# Altium schematic symbol library Huan.SchLib: 127 symbols
Pins are listed as number, name and electrical type; pins without a type are passive.

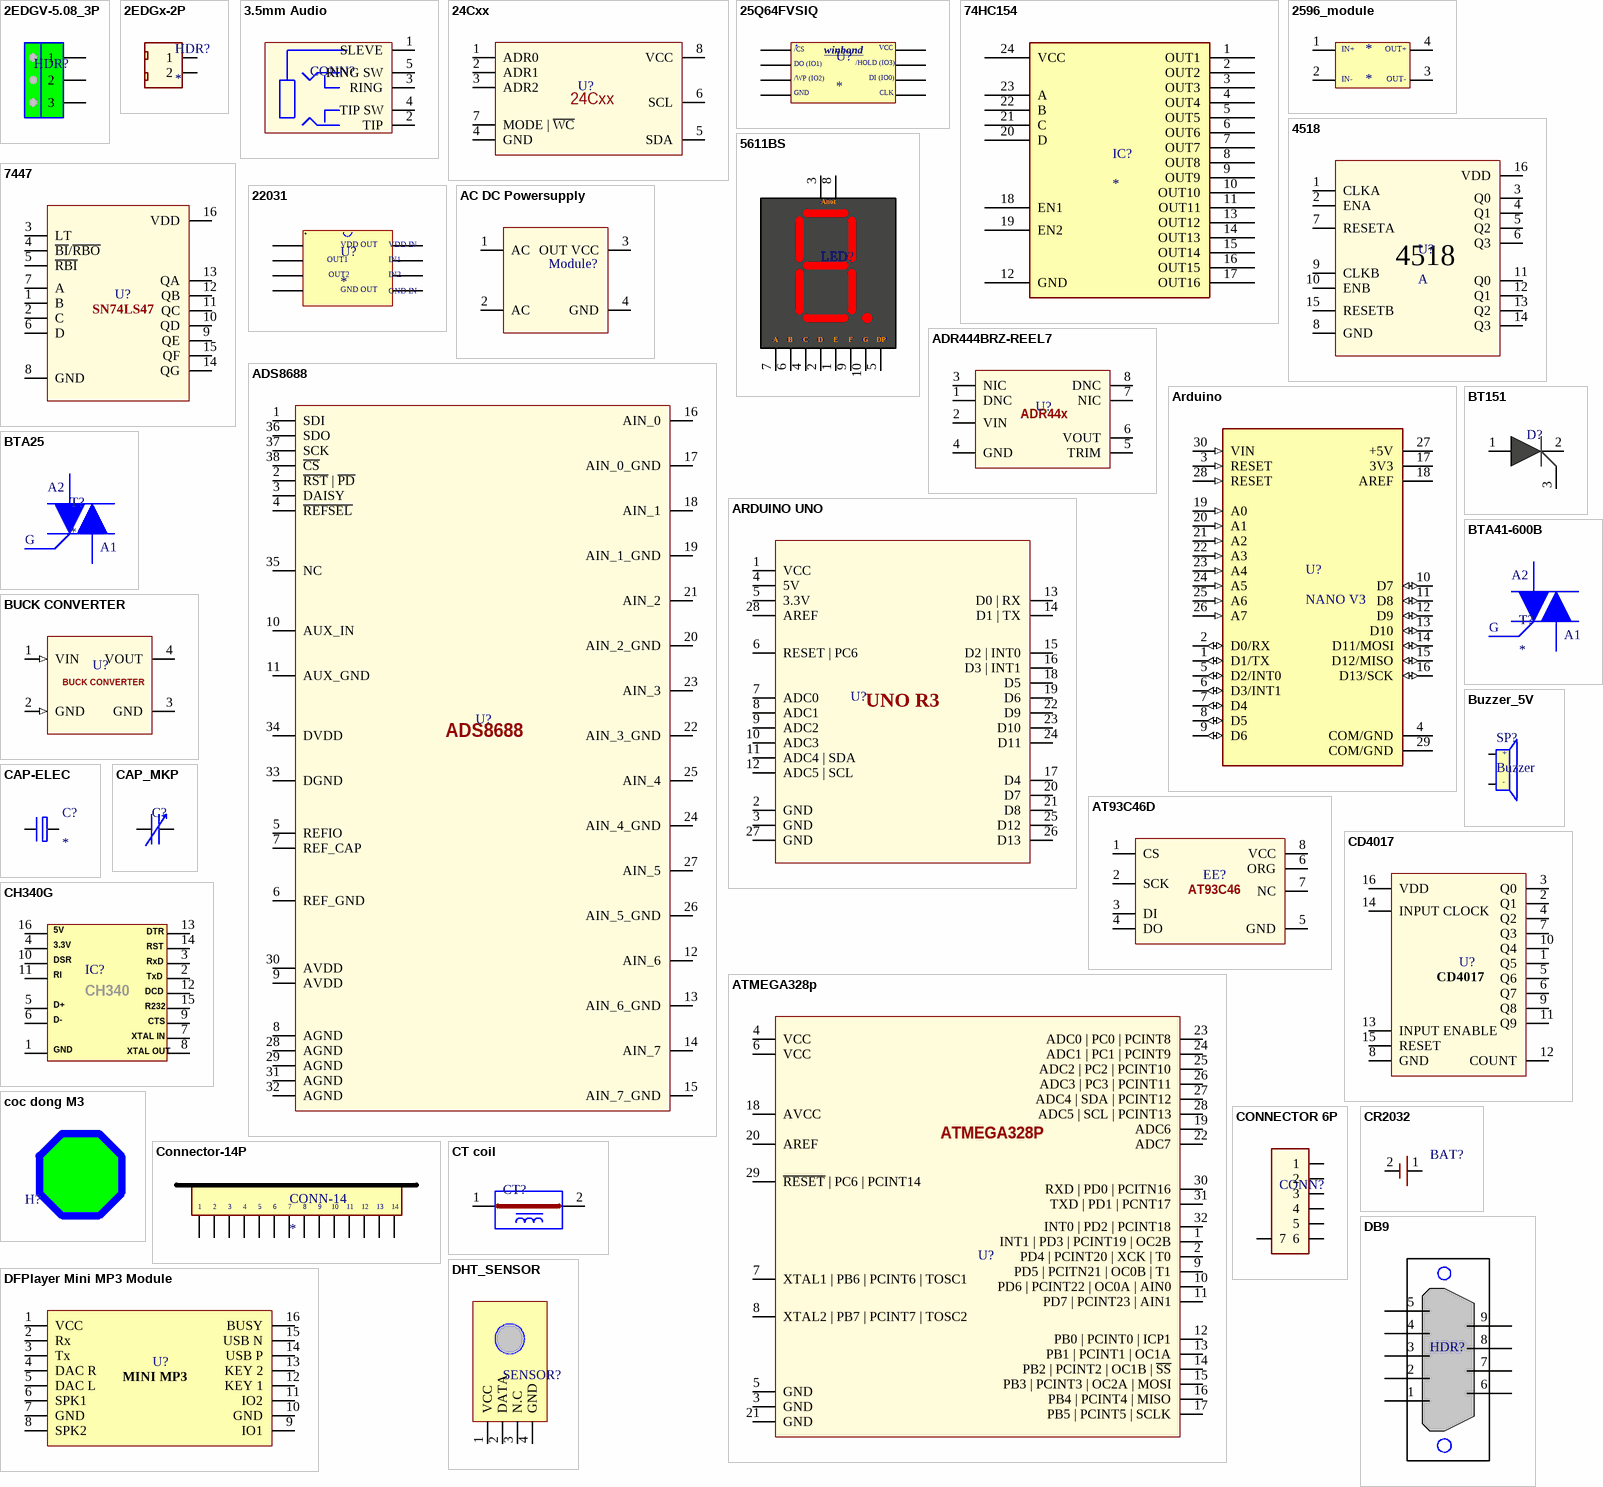
[diagram p0: symbols 2EDGV-5.08_3P to DHT_SENSOR]

## 2EDGV-5.08_3P
designator HDR?  (value not drawn)
footprint 2EDGV_5.08_3P
pins: 1, 2, 3

## 2EDGx-2P
designator HDR?
footprint 2EGDV-5.08_2P
footprint 2EDGK-7.62_2P
footprint 2EDGR-5.00
footprint KF5.08-2P
pins: 1, 2

## 3.5mm Audio
designator CONN?  (value not drawn)
footprint PJ-307-5
pins: 1 SLEVE, 2 TIP, 3 RING, 4 TIP SW, 5 RING SW

## 24Cxx
designator U?  (value not drawn)
SERIAL EEPROM
footprint SOP-8
pins: 1 ADR0, 2 ADR1, 3 ADR2, 4 GND, 5 SDA, 6 SCL, 7 MODE | ~{WC}, 8 VCC

## 25Q64FVSIQ
designator U?
pins: 1, 2, 3, 4, 5, 6, 7, 8
text: VCC; /CS; winbond; /HOLD (IO3); DO (IO1); /WP (IO2); DI (IO0); GND; CLK

## 74HC154
designator IC?
footprint SOP24
pins: 1 OUT1, 2 OUT2, 3 OUT3, 4 OUT4, 5 OUT5, 6 OUT6, 7 OUT7, 8 OUT8, 9 OUT9, 10 OUT10, 11 OUT11, 12 GND, 13 OUT12, 14 OUT13, 15 OUT14, 16 OUT15, 17 OUT16, 18 EN1, 19 EN2, 20 D, 21 C, 22 B, 23 A, 24 VCC

## 2596_module
designator *
footprint 2596_MODULE
pins: 1, 2, 3, 4
text: IN+; OUT+; IN-; OUT-

## 4518
designator U?, comment A
footprint DIP-16
pins: 1 CLKA, 2 ENA, 3 Q0, 4 Q1, 5 Q2, 6 Q3, 7 RESETA, 8 GND, 9 CLKB, 10 ENB, 11 Q0, 12 Q1, 13 Q2, 14 Q3, 15 RESETB, 16 VDD

## 5611BS
designator LED?  (value not drawn)
footprint 7SEG-0.56"
pins: 1, 2, 3, 4, 5, 6, 7, 8, 9, 10
text: Anot; A; B; C; D; E; F; G; DP

## 7447
designator U?  (value not drawn)
footprint DIP-16
pins: 1 B, 2 C, 3 LT, 4 ~{BI}/~{RBO}, 5 ~{RBI}, 6 D, 7 A, 8 GND, 9 QE, 10 QD, 11 QC, 12 QB, 13 QA, 14 QG, 15 QF, 16 VDD
text: SN74LS47

## 22031
designator U?
pins: 1, 2, 3, 4, 5, 6, 7, 8
text: VDD OUT; VDD IN; OUT1; IN1; OUT2; IN2; GND OUT; GND IN

## AC DC Powersupply
designator Module?  (value not drawn)
footprint AC DC 220 5V 700mA
footprint VNPT_ADAPTER
pins: 1 AC, 2 AC, 3 OUT VCC, 4 GND

## ADR444BRZ-REEL7
designator U?  (value not drawn)
Ultralow Noise, LDO XFET Voltage / References with Current Sink and Source / ADR440/ADR441/ADR443/ADR444/ADR445
footprint SOP-8
pins: 1 DNC, 2 VIN, 3 NIC, 4 GND, 5 TRIM, 6 VOUT, 7 NIC, 8 DNC
text: ADR44x

## ADS8688
designator U?  (value not drawn)
ADS868x16-Bit,500-kSPS,4-and8-Channel,Single-Supply
footprint TSSOP-38
pins: 1 SDI, 2 ~{RST} | ~{PD}, 3 DAISY, 4 ~{REFSEL}, 5 REFIO, 6 REF_GND, 7 REF_CAP, 8 AGND, 9 AVDD, 10 AUX_IN, 11 AUX_GND, 12 AIN_6, 13 AIN_6_GND, 14 AIN_7, 15 AIN_7_GND, 16 AIN_0, 17 AIN_0_GND, 18 AIN_1, 19 AIN_1_GND, 20 AIN_2_GND, 21 AIN_2, 22 AIN_3_GND, 23 AIN_3, 24 AIN_4_GND, 25 AIN_4, 26 AIN_5_GND, 27 AIN_5, 28 AGND, 29 AGND, 30 AVDD, 31 AGND, 32 AGND, 33 DGND, 34 DVDD, 35 NC, 36 SDO, 37 SCK, 38 ~{CS}

## Arduino
designator U?, comment NANO V3
footprint Nano V3
pins: 1 D1/TX (io), 2 D0/RX (io), 3 RESET (in), 4 COM/GND (power), 5 D2/INT0 (io), 6 D3/INT1 (io), 7 D4 (io), 8 D5 (io), 9 D6 (io), 10 D7 (io), 11 D8 (io), 12 D9 (io), 13 D10 (io), 14 D11/MOSI (io), 15 D12/MISO (io), 16 D13/SCK (io), 17 3V3 (power), 18 AREF (power), 19 A0 (in), 20 A1 (in), 21 A2 (in), 22 A3 (in), 23 A4 (in), 24 A5 (in), 25 A6 (in), 26 A7 (in), 27 +5V (power), 28 RESET (in), 29 COM/GND (power), 30 VIN (in)

## ARDUINO UNO
designator U?  (value not drawn)
footprint ARDUINO UNO
pins: 1 VCC, 2 GND, 3 GND, 4 5V, 5 3.3V, 6 RESET | PC6, 7 ADC0, 8 ADC1, 9 ADC2, 10 ADC3, 11 ADC4 | SDA, 12 ADC5 | SCL, 13 D0 | RX, 14 D1 | TX, 15 D2 | INT0, 16 D3 | INT1, 17 D4, 18 D5, 19 D6, 20 D7, 21 D8, 22 D9, 23 D10, 24 D11, 25 D12, 26 D13, 27 GND, 28 AREF
text: UNO R3

## AT93C46D
designator EE?  (value not drawn)
3-wire Serial EEPROM
footprint SOP-8_mini
pins: 1 CS, 2 SCK, 3 DI, 4 DO, 5 GND, 6 ORG, 7 NC, 8 VCC
text: AT93C46

## ATMEGA328p
designator U?  (value not drawn)
footprint TQFP-32
pins: 1 INT1 | PD3 | PCINT19 | OC2B (power), 2 PD4 | PCINT20 | XCK | T0, 3 GND, 4 VCC, 5 GND, 6 VCC, 7 XTAL1 | PB6 | PCINT6 | TOSC1, 8 XTAL2 | PB7 | PCINT7 | TOSC2 , 9 PD5 | PCITN21 | OC0B | T1 (power), 10 PD6 | PCINT22 | OC0A | AIN0 (power), 11 PD7 | PCINT23 | AIN1, 12 PB0 | PCINT0 | ICP1, 13 PB1 | PCINT1 | OC1A (power), 14 PB2 | PCINT2 | OC1B | ~{SS} (power), 15 PB3 | PCINT3 | OC2A | MOSI (power), 16 PB4 | PCINT4 | MISO, 17 PB5 | PCINT5 | SCLK, 18 AVCC, 19 ADC6, 20 AREF, 21 GND, 22 ADC7, 23 ADC0 | PC0 | PCINT8, 24 ADC1 | PC1 | PCINT9, 25 ADC2 | PC2 | PCINT10, 26 ADC3 | PC3 | PCINT11, 27 ADC4 | SDA | PCINT12, 28 ADC5 | SCL | PCINT13, 29 ~{RESET} | PC6 | PCINT14, 30 RXD | PD0 | PCITN16, 31 TXD | PD1 | PCNT17, 32 INT0 | PD2 | PCINT18
text: ATMEGA328P

## BT151
designator D?, comment SCR  (value not drawn)
footprint TO-220
pins: 1 A, 2 K, 3 G

## BTA25
designator T?
footprint TO-220_TRIAC
pins: 1, 2, 3
text: A2; G; A1

## BTA41-600B
designator T?
footprint BTA41
pins: 1, 2, 3
text: A2; G; A1

## BUCK CONVERTER
designator U?, comment LM2596  (value not drawn)
footprint LM2596_Module
footprint MINI-360
pins: 1 VIN (in), 2 GND (in), 3 GND (power), 4 VOUT (power)
text: Vin; Vout

## Buzzer_5V
designator SP?, comment Buzzer
footprint Buzzer
pins: 1, 2
text: +; -

## CAP-ELEC
designator C?
footprint CAP-5MM
footprint CAP-2.54MM
footprint CAP-8MM
footprint CAP-8MM_HORIZONTAL
pins: 1, 2

## CAP_MKP
designator C?, comment 474/1200V  (value not drawn)
footprint MKP-1200V
footprint MKP-680nf
footprint X2 0.22uF
footprint X2 0.1uF
pins: 1, 2

## CD4017
designator U?  (value not drawn)
footprint DIP-16
pins: 1 Q5, 2 Q1, 3 Q0, 4 Q2, 5 Q6, 6 Q7, 7 Q3, 8 GND, 9 Q8, 10 Q4, 11 Q9, 12 COUNT, 13 INPUT ENABLE, 14 INPUT CLOCK, 15 RESET, 16 VDD

## CH340G
designator IC?  (value not drawn)
footprint SOIC-16
pins: 1, 2, 3, 4, 5, 6, 7, 8, 9, 10, 11, 12, 13, 14, 15, 16
text: 5V; DTR; 3.3V; RST; DSR; RxD; RI; TxD; CH340; DCD; D+; R232; D-; CTS; XTAL IN; GND; XTAL OUT

## coc dong M3
designator H?
footprint M3

## CONNECTOR 6P
designator CONN?  (value not drawn)
footprint PH 2.0MM
footprint JST-PH2.0_6P
pins: 1, 2, 3, 4, 5, 6, 7

## Connector-14P
designator CONN-14
pins: 1, 2, 3, 4, 5, 6, 7, 8, 9, 10, 11, 12, 13, 14

## CR2032
designator BAT?  (value not drawn)
footprint CR2032_h
footprint CR2032_SMD
pins: 1 vcc, 2 GND

## CT coil
designator CT?  (value not drawn)
footprint CT COIL for PZEM
pins: 1 CT1, 2 CT2

## DB9
designator HDR?  (value not drawn)
footprint DB9
pins: 1 8, 2 7, 3, 4 5, 5 4, 6, 7 4, 8, 9

## DFPlayer Mini MP3 Module
designator U?  (value not drawn)
footprint MP3-MINI
pins: 1 VCC, 2 Rx, 3 Tx, 4 DAC R, 5 DAC L, 6 SPK1, 7 GND, 8 SPK2, 9 IO1, 10 GND, 11 IO2, 12 KEY 1, 13 KEY 2, 14 USB P, 15 USB N, 16 BUSY
text: MINI MP3

## DHT_SENSOR
designator SENSOR?
Temperature and Humidity Sensor
footprint DHT
pins: 1 VCC, 2 DATA, 3 N.C, 4 GND

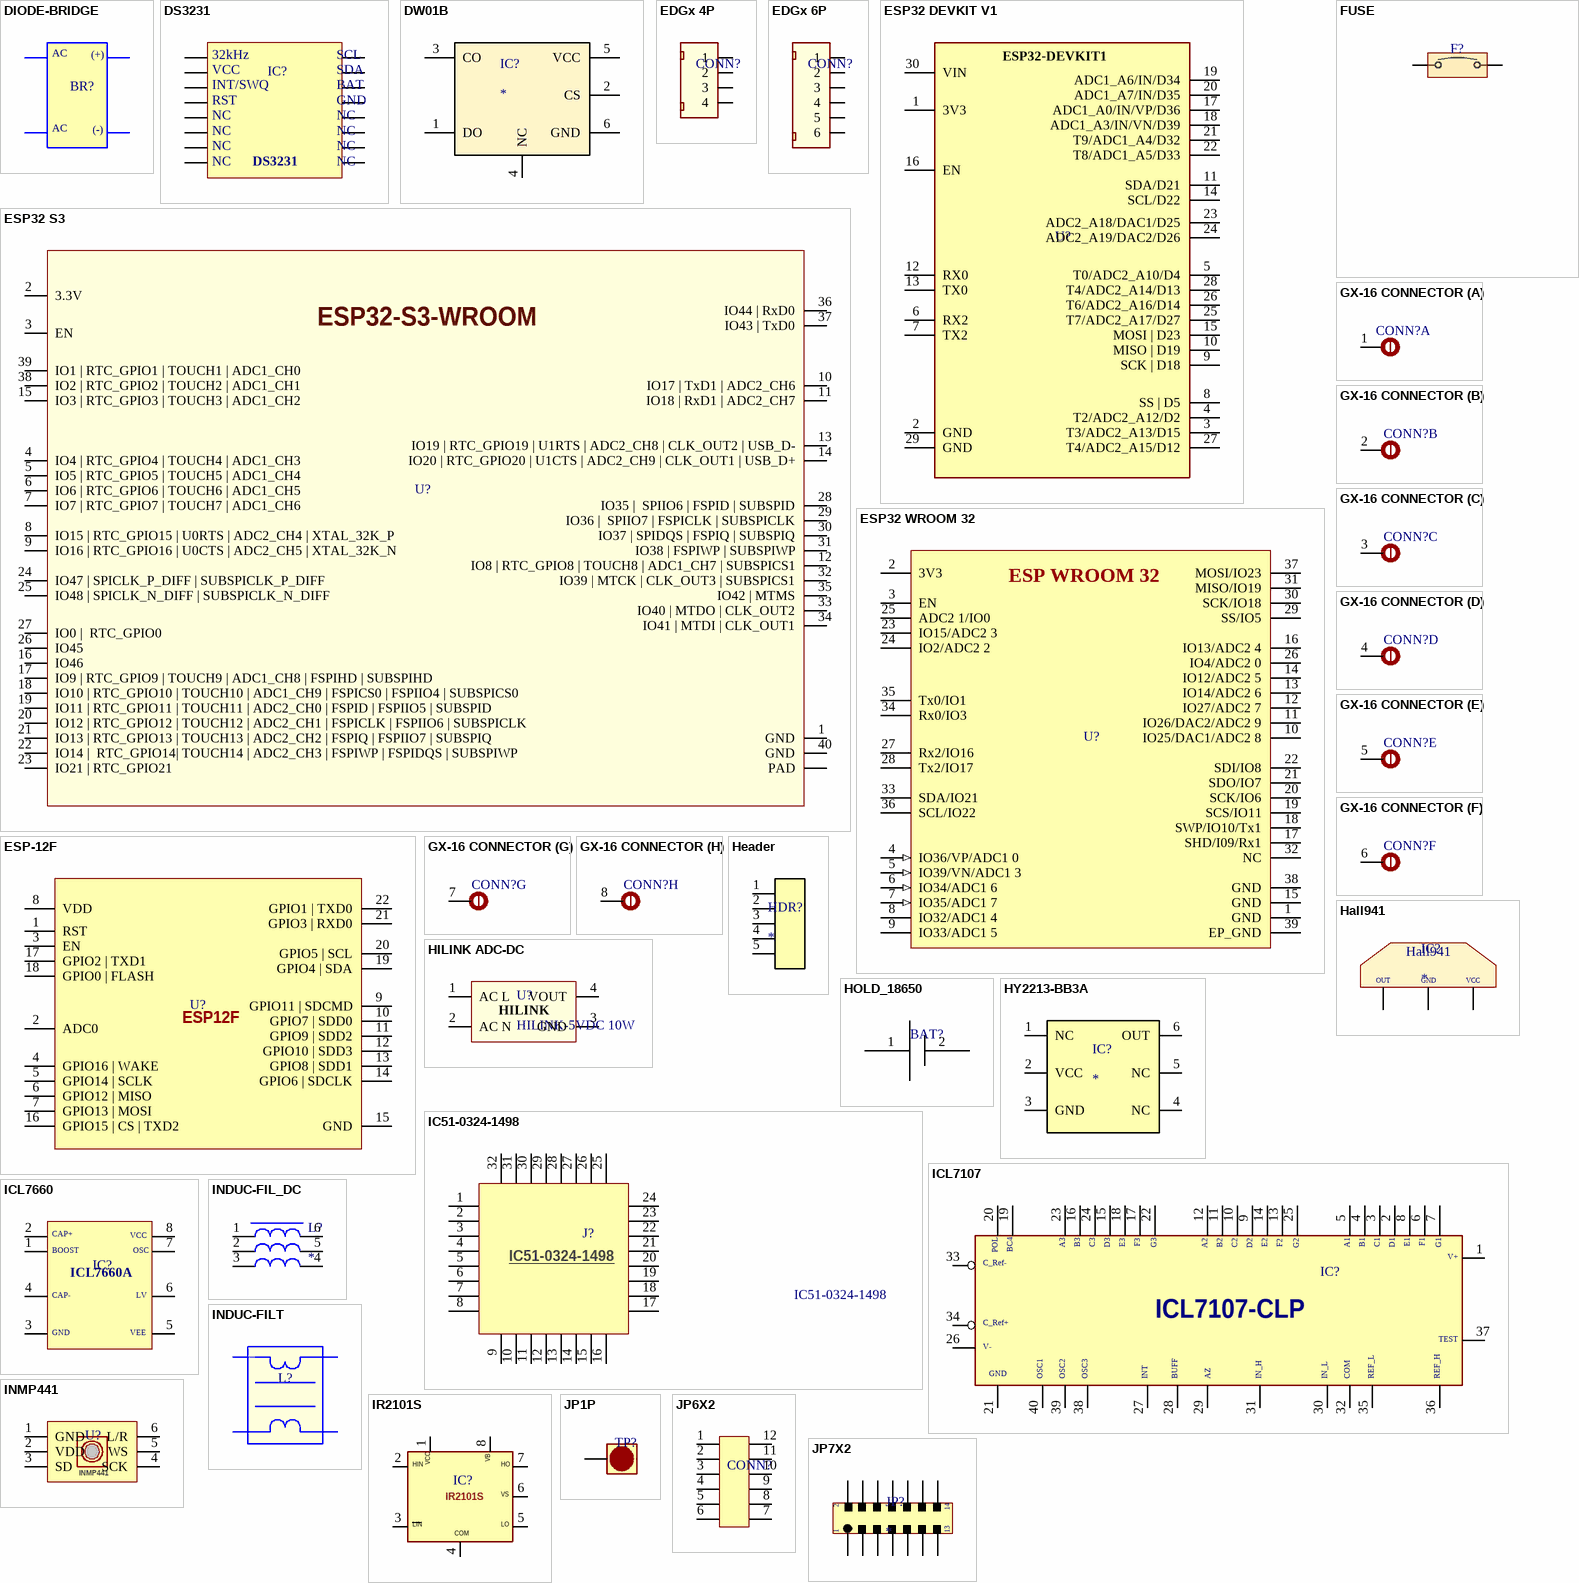
[diagram p1: symbols DIODE-BRIDGE to JP7X2]

## DIODE-BRIDGE
designator BR?  (value not drawn)
footprint KDJ410
pins: 1, 2, 3, 4
text: AC; (+); (-)

## DS3231
designator IC?  (value not drawn)
footprint SO-16
pins: 1, 2, 3, 4, 5, 6, 7, 8, 9, 10, 11, 12, 13, 14, 15, 16
text: 32kHz; SCL; VCC; SDA; INT/SWQ; BAT; RST; GND; NC

## DW01B
designator IC?
footprint SOT23-6
pins: 1 DO, 2 CS, 3 CO, 4 NC, 5 VCC, 6 GND

## EDGx 4P
designator CONN?  (value not drawn)
footprint 2EDGK-3.81
footprint 15EDGCV-3.81_4P
pins: 1, 2, 3, 4

## EDGx 6P
designator CONN?  (value not drawn)
footprint 15EDGCV-3.81_6P
pins: 1, 2, 3, 4, 5, 6

## ESP32 DEVKIT V1
designator U?  (value not drawn)
The DOIT ESP32 DevKit V1 is probably the most famous development board based on the equally popular ESP32 Wi-Fi SoC from Espressif. In fact, the DevKit V1 is more popular than any official board from Espressif.
footprint ESP32 DEVKIT V1
pins: 1 3V3, 2 GND, 3 T3/ADC2_A13/D15, 4 T2/ADC2_A12/D2, 5 T0/ADC2_A10/D4, 6 RX2, 7 TX2, 8 SS | D5, 9 SCK | D18, 10 MISO | D19, 11 SDA/D21, 12 RX0, 13 TX0, 14 SCL/D22, 15 MOSI | D23, 16 EN, 17 ADC1_A0/IN/VP/D36, 18 ADC1_A3/IN/VN/D39, 19 ADC1_A6/IN/D34, 20 ADC1_A7/IN/D35, 21 T9/ADC1_A4/D32, 22 T8/ADC1_A5/D33, 23 ADC2_A18/DAC1/D25, 24 ADC2_A19/DAC2/D26, 25 T7/ADC2_A17/D27, 26 T6/ADC2_A16/D14, 27 T4/ADC2_A15/D12, 28 T4/ADC2_A14/D13, 29 GND, 30 VIN
text: ESP32-DEVKIT1

## ESP32 S3
designator U?  (value not drawn)
2.4 GHz Wi-Fi (802.11 b/g/n) and Bluetooth® 5 (LE) module / Built around ESP32-S3 series of SoCs, Xtensa® dual-core 32-bit LX7 microprocessor / Flash up to 16 MB, PSRAM up to 16 MB / Up to 36 GPIOs, rich set of peripherals / On-board PCB antenna or external antenna connector
footprint ESP32-S3-WROOM-1/1U
pins: 1 GND, 2 3.3V, 3 EN, 4 IO4 | RTC_GPIO4 | TOUCH4 | ADC1_CH3, 5 IO5 | RTC_GPIO5 | TOUCH5 | ADC1_CH4, 6 IO6 | RTC_GPIO6 | TOUCH6 | ADC1_CH5, 7 IO7 | RTC_GPIO7 | TOUCH7 | ADC1_CH6, 8 IO15 | RTC_GPIO15 | U0RTS | ADC2_CH4 | XTAL_32K_P, 9 IO16 | RTC_GPIO16 | U0CTS | ADC2_CH5 | XTAL_32K_N, 10 IO17 | TxD1 | ADC2_CH6, 11 IO18 | RxD1 | ADC2_CH7, 12 IO8 | RTC_GPIO8 | TOUCH8 | ADC1_CH7 | SUBSPICS1, 13 IO19 | RTC_GPIO19 | U1RTS | ADC2_CH8 | CLK_OUT2 | USB_D-, 14 IO20 | RTC_GPIO20 | U1CTS | ADC2_CH9 | CLK_OUT1 | USB_D+, 15 IO3 | RTC_GPIO3 | TOUCH3 | ADC1_CH2, 16 IO46, 17 IO9 | RTC_GPIO9 | TOUCH9 | ADC1_CH8 | FSPIHD | SUBSPIHD, 18 IO10 | RTC_GPIO10 | TOUCH10 | ADC1_CH9 | FSPICS0 | FSPIIO4 | SUBSPICS0, 19 IO11 | RTC_GPIO11 | TOUCH11 | ADC2_CH0 | FSPID | FSPIIO5 | SUBSPID, 20 IO12 | RTC_GPIO12 | TOUCH12 | ADC2_CH1 | FSPICLK | FSPIIO6 | SUBSPICLK, 21 IO13 | RTC_GPIO13 | TOUCH13 | ADC2_CH2 | FSPIQ | FSPIIO7 | SUBSPIQ, 22 IO14 |  RTC_GPIO14| TOUCH14 | ADC2_CH3 | FSPIWP | FSPIDQS | SUBSPIWP, 23 IO21 | RTC_GPIO21, 24 IO47 | SPICLK_P_DIFF | SUBSPICLK_P_DIFF, 25 IO48 | SPICLK_N_DIFF | SUBSPICLK_N_DIFF, 26 IO45, 27 IO0 |  RTC_GPIO0, 28 IO35 |  SPIIO6 | FSPID | SUBSPID, 29 IO36 |  SPIIO7 | FSPICLK | SUBSPICLK, 30 IO37 | SPIDQS | FSPIQ | SUBSPIQ, 31 IO38 | FSPIWP | SUBSPIWP, 32 IO39 | MTCK | CLK_OUT3 | SUBSPICS1, 33 IO40 | MTDO | CLK_OUT2, 34 IO41 | MTDI | CLK_OUT1, 35 IO42 | MTMS, 36 IO44 | RxD0, 37 IO43 | TxD0, 38 IO2 | RTC_GPIO2 | TOUCH2 | ADC1_CH1, 39 IO1 | RTC_GPIO1 | TOUCH1 | ADC1_CH0, 40 GND, PAD
text: ESP32-S3-WROOM

## ESP32 WROOM 32
designator U?  (value not drawn)
footprint ESP32 WROOM32
pins: 1 GND (oc), 2 3V3 (oc), 3 EN (oc), 4 IO36/VP/ADC1 0 (in), 5 IO39/VN/ADC1 3 (in), 6 IO34/ADC1 6 (in), 7 IO35/ADC1 7 (in), 8 IO32/ADC1 4 (oc), 9 IO33/ADC1 5 (oc), 10 IO25/DAC1/ADC2 8 (oc), 11 IO26/DAC2/ADC2 9 (oc), 12 IO27/ADC2 7 (oc), 13 IO14/ADC2 6 (oc), 14 IO12/ADC2 5 (oc), 15 GND (oc), 16 IO13/ADC2 4 (oc), 17 SHD/I09/Rx1 (oc), 18 SWP/IO10/Tx1 (oc), 19 SCS/IO11 (oc), 20 SCK/IO6 (oc), 21 SDO/IO7 (oc), 22 SDI/IO8 (oc), 23 IO15/ADC2 3 (oc), 24 IO2/ADC2 2 (oc), 25 ADC2 1/IO0 (oc), 26 IO4/ADC2 0 (oc), 27 Rx2/IO16 (oc), 28 Tx2/IO17 (oc), 29 SS/IO5 (oc), 30 SCK/IO18 (oc), 31 MISO/IO19 (oc), 32 NC (oc), 33 SDA/IO21 (oc), 34 Rx0/IO3 (oc), 35 Tx0/IO1 (oc), 36 SCL/IO22 (oc), 37 MOSI/IO23 (oc), 38 GND (oc), 39 EP_GND (oc)
text: ESP WROOM 32

## ESP-12F
designator U?  (value not drawn)
footprint ESP12F
pins: 1 RST, 2 ADC0, 3 EN, 4 GPIO16 | WAKE, 5 GPIO14 | SCLK, 6 GPIO12 | MISO, 7 GPIO13 | MOSI, 8 VDD, 9 GPIO11 | SDCMD, 10 GPIO7 | SDD0, 11 GPIO9 | SDD2, 12 GPIO10 | SDD3, 13 GPIO8 | SDD1, 14 GPIO6 | SDCLK, 15 GND, 16 GPIO15 | CS | TXD2, 17 GPIO2 | TXD1, 18 GPIO0 | FLASH, 19 GPIO4 | SDA, 20 GPIO5 | SCL, 21 GPIO3 | RXD0, 22 GPIO1 | TXD0
text: ESP12F

## FUSE
designator F?
footprint R3-24_FUSE-HOLDER
footprint FUSE 5X20MM
pins: 1, 2

## GX-16 CONNECTOR
designator CONN?  (value not drawn)
footprint GX-16
part A pins: 1
part B pins: 2
part C pins: 3
part D pins: 4
part E pins: 5
part F pins: 6
part G pins: 7
part H pins: 8

## Hall941
designator IC?
pins: 1, 2, 3
text: OUT; GND; VCC

## Header
designator HDR?
footprint HEADER5
pins: 1, 2, 3, 4, 5

## HILINK ADC-DC
designator U?, comment HILINK-5VDC 10W
footprint HILINK-5VDC
pins: 1 AC L, 2 AC N, 3 GND, 4 VOUT
text: HILINK

## HOLD_18650
designator BAT?  (value not drawn)
footprint HOLD_18650
pins: 1 +, 2 VCC

## HY2213-BB3A
designator IC?
footprint SOT23-6
pins: 1 NC, 2 VCC, 3 GND, 4 NC, 5 NC, 6 OUT

## IC51-0324-1498
designator J?
IC test socket, clam shell QFP-32. 700VAC, 1A, 30mOhm, -55C~170C; Manufacturer_Name: Yamaichi; Geometry.Height: 19.5mm; Manufacturer_Part_Number: IC51-0324-1498; Mouser Part Number: 945-IC51-0324-1498; Mouser Price/Stock: https://www.mouser.co.uk/ProductDetail/Yamaichi-Electronics/IC51-0324-1498?qs=%252B0TYqQXox77nnSSEx5A%252Btw%3D%3D; Arrow Part Number: *; Arrow Price/Stock: *; Datasheet Link: https://www.mouser.com/datasheet/2/448/yeuis00502_1-2286786.pdf
footprint IC5103241498
pins: 1, 2, 3, 4, 5, 6, 7, 8, 9, 10, 11, 12, 13, 14, 15, 16, 17, 18, 19, 20, 21, 22, 23, 24, 25, 26, 27, 28, 29, 30, 31, 32

## ICL7107
designator IC?
31/2 Digit, LCD/LED Display, A/D Converters
footprint DIP-40
pins: 1 (power), 2, 3, 4, 5, 6, 7, 8, 9, 10, 11, 12, 13, 14, 15, 16, 17, 18, 19, 20, 21, 22, 23, 24, 25, 26, 27, 28, 29, 30, 31, 32, 33, 34, 35, 36, 37, 38, 39, 40
text: POL; BC4; A3; B3; C3; D3; E3; F3; G3; A2; B2; C2; D2; E2; F2; G2; A1; B1; C1; D1; E1; F1; G1; C_Ref-; V+; C_Ref+; ICL7107-CLP; TEST; V-; GND; OSC1; OSC2; OSC3; INT; BUFF; AZ; IN_H; IN_L; COM; REF_L; REF_H

## ICL7660
designator IC?  (value not drawn)
footprint DIP-8
pins: 1, 2, 3, 4, 5, 6, 7, 8
text: CAP+; VCC; BOOST; OSC; ICL7660A; CAP-; LV; GND; VEE

## INDUC-FIL_DC
designator L?
footprint INDUCFIL_DC
pins: 1, 2, 3, 4, 5, 6

## INDUC-FILT
designator L?
footprint INDUC_CMT-8118
footprint LF
pins: 1, 2, 3, 4

## INMP441
designator U?  (value not drawn)
footprint INMP441-MODULE
pins: 1 GND, 2 VDD, 3 SD, 4 SCK, 5 WS, 6 L/R

## IR2101S
designator IC?  (value not drawn)
footprint SOIC-8
pins: 1, 2, 3, 4, 5, 6, 7, 8
text: VB; HIN; VCC; HO; VS; LIN; LO; COM

## JP1P
designator TP?  (value not drawn)
footprint PW-JP
pins: 1

## JP6X2
designator CONN?  (value not drawn)
footprint JP6X2
pins: 1, 2, 3, 4, 5, 6, 7, 8, 9, 10, 11, 12

## JP7X2
designator JP?
pins: 1, 2, 3, 4, 5, 6, 7, 8, 9, 10, 11, 12, 13, 14

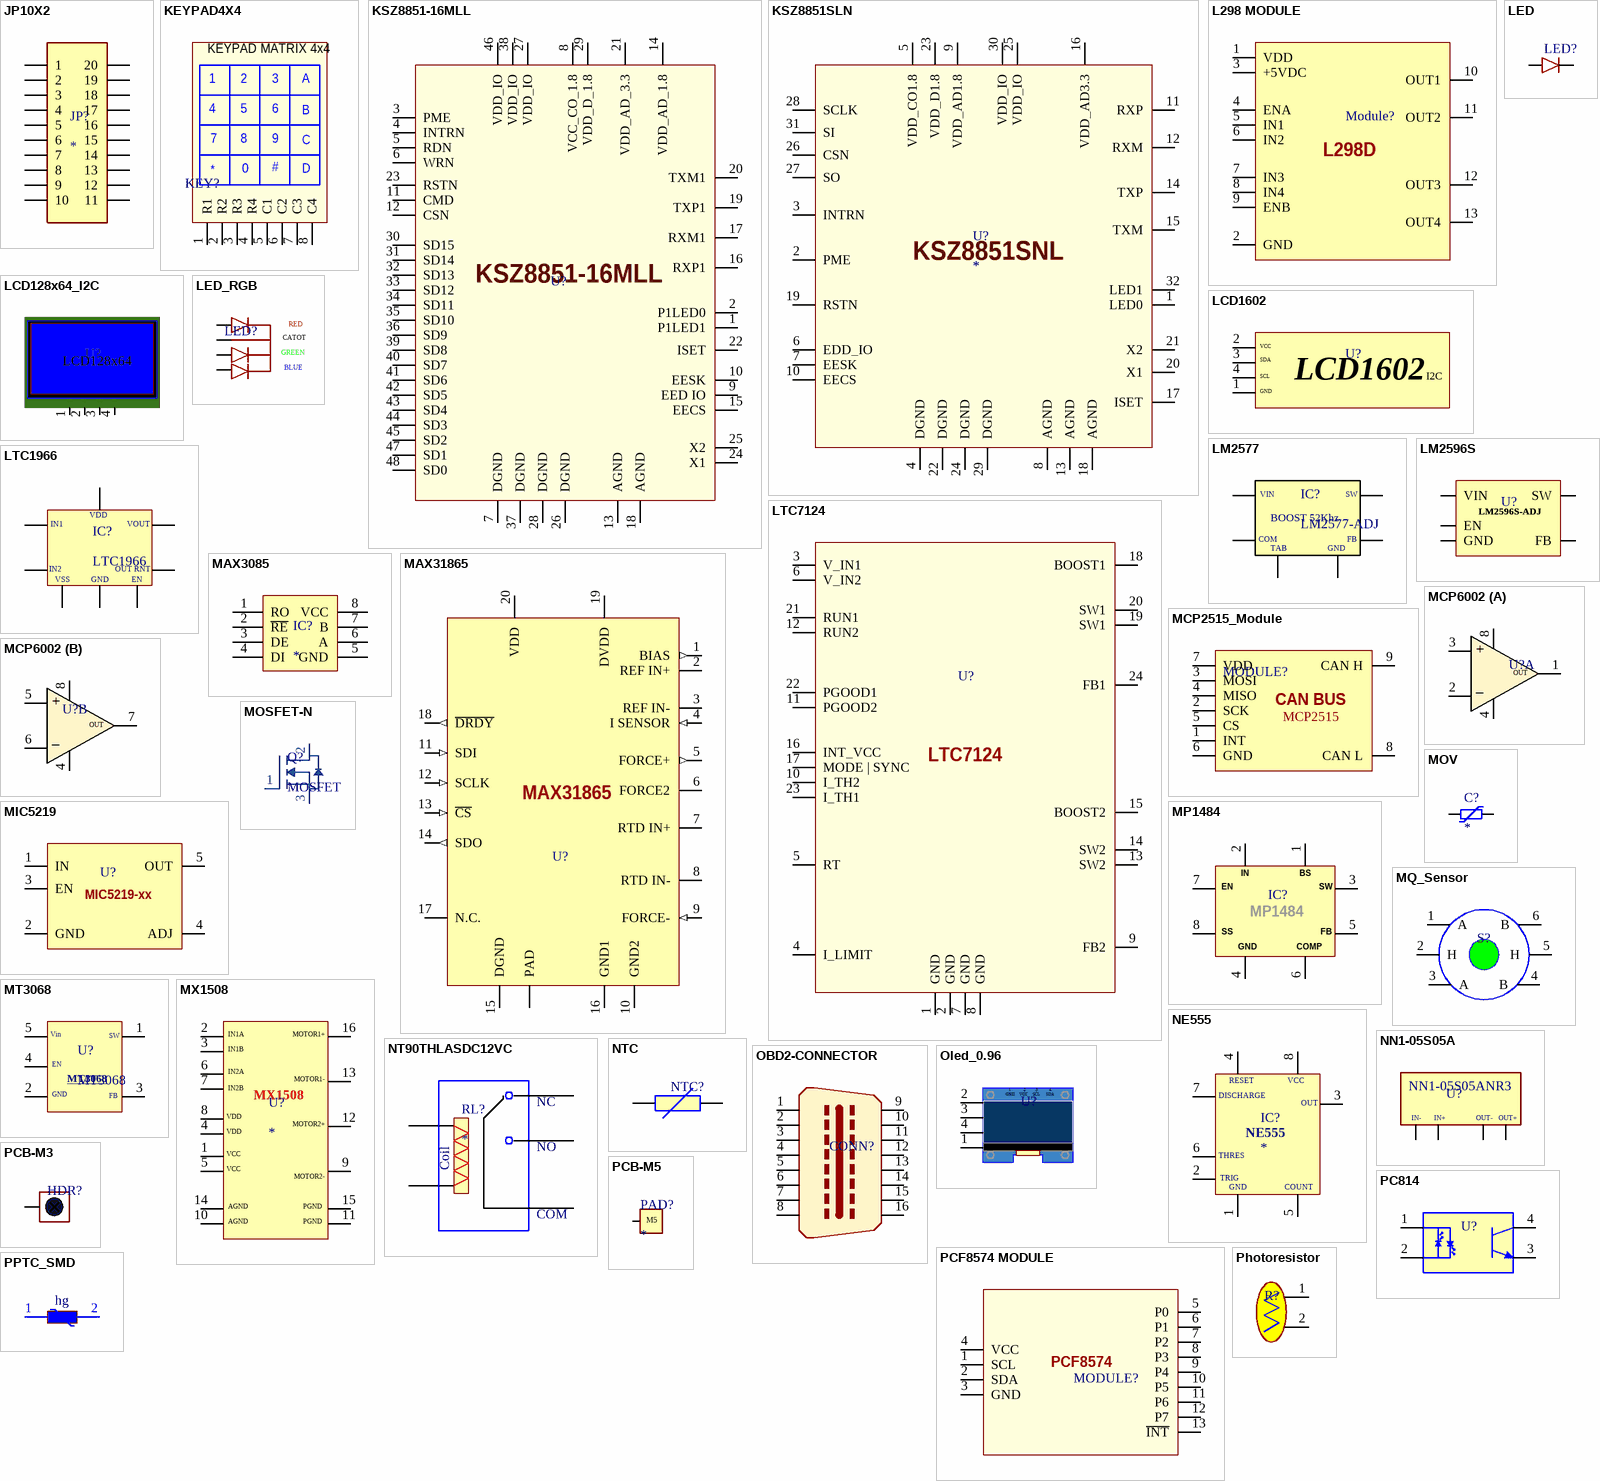
[diagram p2: symbols JP10X2 to PPTC_SMD]

## JP10X2
designator JP?
footprint HDR-2.54_10X2
pins: 1, 2, 3, 4, 5, 6, 7, 8, 9, 10, 11, 12, 13, 14, 15, 16, 17, 18, 19, 20

## KEYPAD4X4
designator KEY?  (value not drawn)
footprint KEYPAD 4X4
pins: 1 R1, 2 R2, 3 R3, 4 R4, 5 C1, 6 C2, 7 C3, 8 C4
text: KEYPAD MATRIX 4x4; A; B; 9; C; 0; #; D

## KSZ8851-16MLL
designator U?  (value not drawn)
footprint LQFP-48
pins: 1 P1LED1, 2 P1LED0, 3 PME, 4 INTRN, 5 RDN, 6 WRN, 7 DGND, 8 VCC_CO_1.8, 9 EED IO, 10 EESK, 11 CMD, 12 CSN, 13 AGND, 14 VDD_AD_1.8, 15 EECS, 16 RXP1, 17 RXM1, 18 AGND, 19 TXP1, 20 TXM1, 21 VDD_AD_3.3, 22 ISET, 23 RSTN, 24 X1, 25 X2, 26 DGND, 27 VDD_IO, 28 DGND, 29 VDD_D_1.8, 30 SD15, 31 SD14, 32 SD13, 33 SD12, 34 SD11, 35 SD10, 36 SD9, 37 DGND, 38 VDD_IO, 39 SD8, 40 SD7, 41 SD6, 42 SD5, 43 SD4, 44 SD3, 45 SD2, 46 VDD_IO, 47 SD1, 48 SD0

## KSZ8851SLN
designator U?
footprint QFN32-32
pins: 1 LED0, 2 PME, 3 INTRN, 4 DGND, 5 VDD_CO1.8, 6 EDD_IO, 7 EESK, 8 AGND, 9 VDD_AD1.8, 10 EECS, 11 RXP, 12 RXM, 13 AGND, 14 TXP, 15 TXM, 16 VDD_AD3.3, 17 ISET, 18 AGND, 19 RSTN, 20 X1, 21 X2, 22 DGND, 23 VDD_D1.8, 24 DGND, 25  VDD_IO, 26 CSN, 27 SO, 28 SCLK, 29 DGND, 30 VDD_IO, 31 SI, 32 LED1
text: KSZ8851SNL

## L298 MODULE
designator Module?  (value not drawn)
footprint L298D
pins: 1 VDD, 2 GND, 3 +5VDC, 4 ENA, 5 IN1, 6 IN2, 7 IN3, 8 IN4, 9 ENB, 10 OUT1, 11 OUT2, 12 OUT3, 13 OUT4
text: L298D

## LCD128x64_I2C
designator U?  (value not drawn)
footprint LCD12864
pins: 1, 2, 3, 4
text: LCD128x64; SDA; SCL; GND; VCC

## LCD1602
designator U?  (value not drawn)
footprint LCD1602-I2C
pins: 1, 2, 3, 4
text: VCC; SDA; SCL; I2C; GND

## LED
designator LED?  (value not drawn)
footprint LED 10MM
pins: 1, 2

## LED_RGB
designator LED?  (value not drawn)
footprint LED RGB 5MM
pins: 1, 2, 3, 4
text: RED; CATOT; GREEN; BLUE

## LM2577
designator IC?, comment LM2577-ADJ
footprint TO-263_5P (IC)
pins: 1, 2, 3, 4, 5, 6
text: VIN; SW; BOOST 52Khz; COM; FB; TAB; GND

## LM2596S
designator U?  (value not drawn)
footprint TO-263_5P (IC)
pins: 1 VIN, 2 SW, 3 GND, 4 FB, 5 EN
text: LM2596S-ADJ

## LTC1966
designator IC?
footprint MSOP-8
pins: 1, 2, 3, 4, 5, 6, 7, 8
text: VDD; IN1; VOUT; IN2; OUT RNT; VSS; GND; EN

## LTC7124
designator U?  (value not drawn)
17V, Dual 3.5A Synchronous Step-Down / Regulator with Ultralow Quiescent Current
footprint 24-Lead Plastic QFN (3mm × 5mm)
pins: 1 GND, 2 GND, 3 V_IN1, 4 I_LIMIT, 5 RT, 6 V_IN2, 7 GND, 8 GND, 9 FB2, 10 I_TH2, 11 PGOOD2, 12 RUN2, 13 SW2, 14 SW2, 15 BOOST2, 16 INT_VCC, 17 MODE | SYNC, 18 BOOST1, 19 SW1, 20 SW1, 21 RUN1, 22 PGOOD1, 23 I_TH1, 24 FB1

## MAX3085
designator IC?
footprint SOP8
pins: 1 RO, 2 ~{RE}, 3 DE, 4 DI, 5 GND, 6 A, 7 B, 8 VCC

## MAX31865
designator U?  (value not drawn)
footprint QFN20-5X5MM
pins: 1 BIAS (out), 2 REF IN+, 3 REF IN-, 4 I SENSOR (in), 5 FORCE+ (out), 6 FORCE2, 7 RTD IN+, 8 RTD IN-, 9 FORCE- (in), 10 GND2, 11 SDI (in), 12 SCLK (in), 13 ~{CS} (in), 14 SDO (out), 15 DGND, 16 GND1, 17 N.C., 18 ~{DRDY} (out), 19 DVDD, 20 VDD, P PAD

## MCP2515_Module
designator MODULE?  (value not drawn)
CAN BUS
footprint MCP2515
pins: 1 INT, 2 SCK, 3 MOSI, 4 MISO, 5 CS, 6 GND, 7 VDD, 8 CAN L, 9 CAN H
text: MCP2515

## MCP6002
designator U?  (value not drawn)
footprint DIP-8
footprint SOP-8
part A pins: 1, 2, 3, 4, 8
part B pins: 4, 5, 6, 7, 8
part A text: +; OUT; _
part B text: +; OUT; _

## MIC5219
designator U?  (value not drawn)
LDO
footprint SOT23-5
pins: 1 IN, 2 GND, 3 EN, 4 ADJ, 5 OUT
text: MIC5219-xx

## MOSFET-N
designator Q?, comment MOSFET
MOSFET N chane
footprint SOT23-3
footprint TO-252
pins: 1, 2, 3

## MOV
designator C?
footprint MOV-7D
footprint MOV-14D
footprint MOV-10D
footprint 7D471K small
pins: 1, 2

## MP1484
designator IC?  (value not drawn)
3A, 18V, 340KHz Synchronous Rectified / Step-Down Converter
footprint SOIC-8
pins: 1, 2, 3, 4, 5, 6, 7, 8
text: IN; BS; EN; SW; SS; FB; GND; COMP

## MQ_Sensor
designator S?
footprint MQ
pins: 1 A, 2 H, 3 A, 4 B, 5 H, 6 B

## MT3068
designator U?
footprint SOT23-6
pins: 1, 2, 3, 4, 5
text: Vin; SW; EN; GND; FB

## MX1508
designator U?
H-brigde
footprint P-SOP16
pins: 1, 2, 3, 4, 5, 6, 7, 8, 9, 10, 11, 12, 13, 14, 15, 16
text: IN1A; MOTOR1+; IN1B; IN2A; MOTOR1-; IN2B; VDD; MOTOR2+; VCC; MOTOR2-; AGND; PGND

## NE555
designator IC?
footprint DIP-8
footprint SOP-8
pins: 1, 2, 3, 4, 5, 6, 7, 8
text: RESET; VCC; DISCHARGE; OUT; THRES; TRIG; GND; COUNT

## NN1-05S05A
designator U?  (value not drawn)
pins: 18 1, 19 2, 20 3, 21 4
text: NN1-05S05ANR3; IN-; IN+; OUT-; OUT+

## NT90THLASDC12VC
designator RL?
footprint RELAY_30A
pins: 1, 2, 3, 4, 5
text: NC; NO; Coil; COM

## NTC
designator NTC?
footprint XD-13
pins: 1, 2

## OBD2-CONNECTOR
designator CONN?  (value not drawn)
footprint OBD2 MALE
pins: 1, 2, 3, 4, 5, 6, 7, 8, 9, 10, 11, 12, 13, 14, 15, 16

## Oled_0.96
designator U?  (value not drawn)
footprint OLED_0.96_MODULE
pins: 1, 2, 3, 4
text: GND; VCC; SCL; SDA

## PC814
designator U?  (value not drawn)
footprint PC814
pins: 1, 2, 3, 4

## PCB-M3
designator HDR?  (value not drawn)
footprint PCB-M3_VERTICAL
pins: 1

## PCB-M5
designator PAD?
footprint PCB-M5
pins: 1
text: M5

## PCF8574 MODULE
designator MODULE?  (value not drawn)
footprint PCF8574_MODULE
pins: 1 SCL, 2 SDA, 3 GND, 4 VCC, 5 P0, 6 P1, 7 P2, 8 P3, 9 P4, 10 P5, 11 P6, 12 P7, 13 ~{INT}
text: PCF8574

## Photoresistor
designator R?  (value not drawn)
footprint photoresistor
pins: 1, 2

## PPTC_SMD
designator hg  (value not drawn)
footprint PPTC_SMD
pins: 1, 2 0

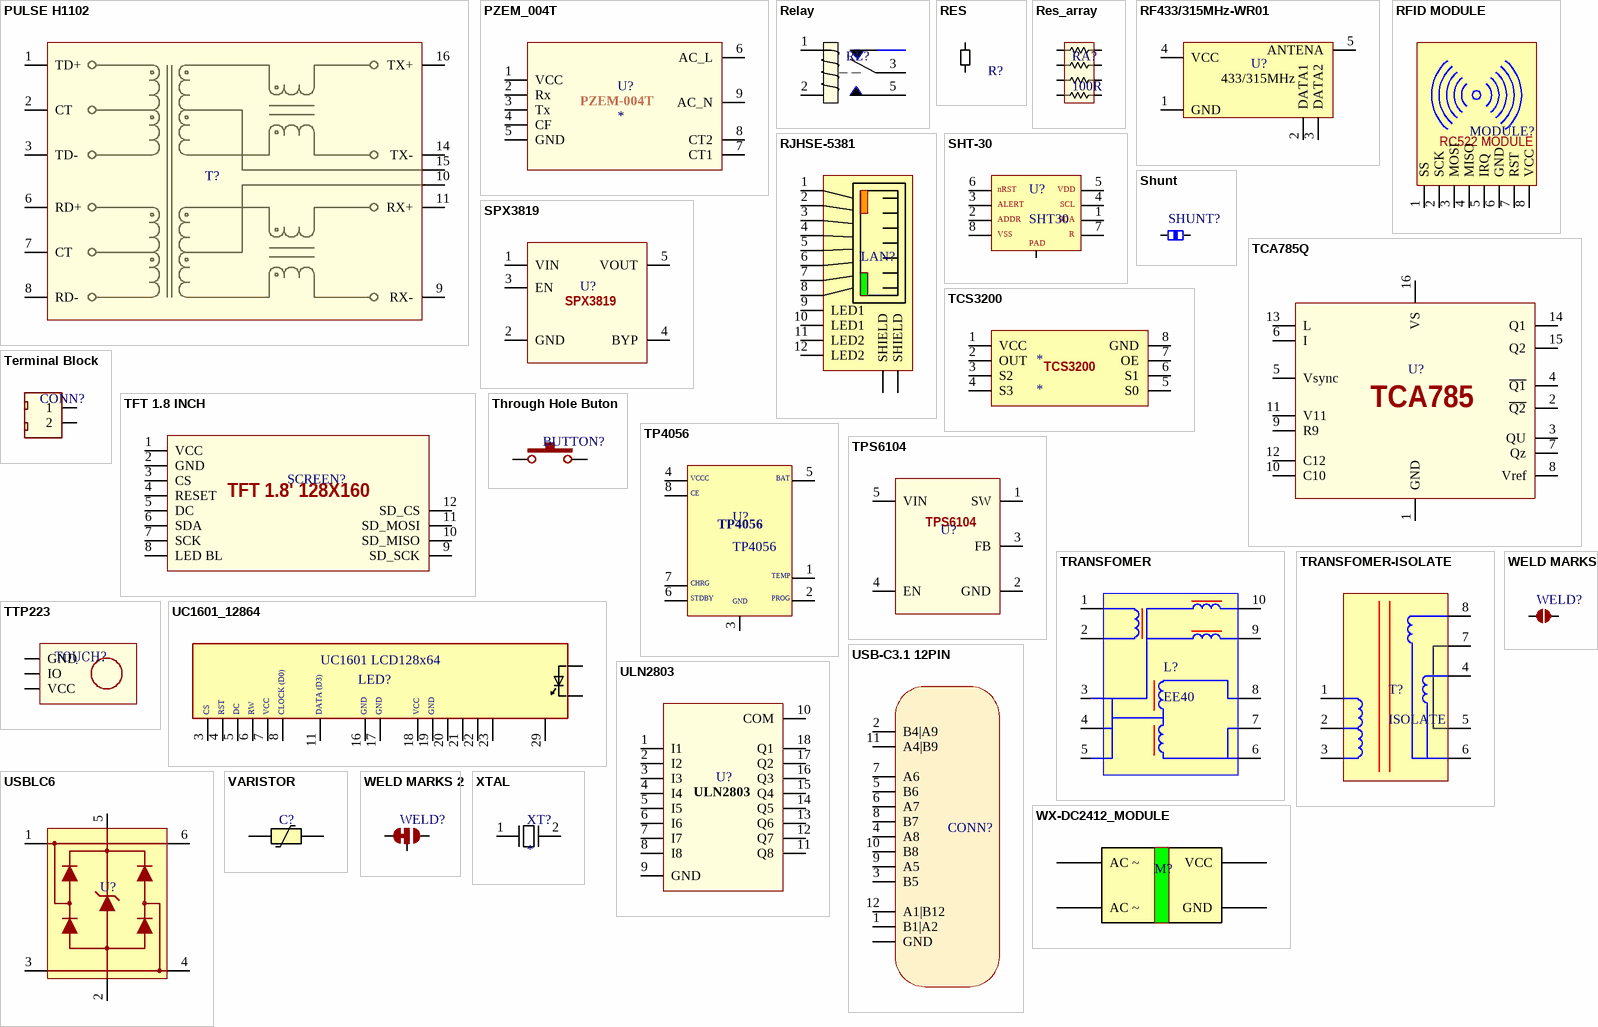
[diagram p3: symbols PULSE H1102 to XTAL]

## PULSE H1102
designator T?  (value not drawn)
footprint PULSE-H1102NL
pins: 1 TD+, 2 CT, 3 TD-, 6 RD+, 7 CT, 8 RD-, 9 RX-, 10, 11 RX+, 14 TX-, 15, 16 TX+

## PZEM_004T
designator U?
footprint PZEM-004T
pins: 1 VCC, 2 Rx, 3 Tx, 4 CF, 5 GND, 6 AC_L, 7 CT1, 8 CT2, 9 AC_N
text: PZEM-004T

## Relay
designator RL?  (value not drawn)
footprint RF6105_12V_80A
pins: 1, 2, 3, 5

## RES
designator R?  (value not drawn)
footprint R1/4W
pins: 1, 2

## Res_array
designator RA?, comment 100R
footprint CN1E4KTTD100J
pins: 1, 2, 3, 4, 5, 6, 7, 8

## RF433/315MHz-WR01
designator U?  (value not drawn)
footprint RF433/315
pins: 1 GND, 2 DATA1, 3 DATA2, 4 VCC, 5 ANTENA
text: 433/315MHz

## RFID MODULE
designator MODULE?  (value not drawn)
footprint RC522_MODULE
pins: 1 SS, 2 SCK, 3 MOSI, 4 MISO, 5 IRQ, 6 GND, 7 RST, 8 VCC
text: RC522 MODULE

## RJHSE-5381
designator LAN?  (value not drawn)
https://pdf1.alldatasheet.com/datasheet-pdf/view/585698/AMPHENOL/RJHSE-5381.html
footprint RJ45
pins: 1, 2, 3, 4, 5, 6, 7, 8, 9 LED1, 10 LED1, 11 LED2, 12 LED2, SHIELD, SHIELD

## SHT-30
designator U?, comment SHT30
footprint SHT-30
pins: 1, 2, 3, 4, 5, 6, 7, 8, PAD
text: nRST; VDD; ALERT; SCL; ADDR; SDA; VSS; R

## Shunt
designator SHUNT?  (value not drawn)
footprint SHUNT10MM
pins: 1, 2

## SPX3819
designator U?  (value not drawn)
500mA Low-Noise LDO Voltage Regulator
footprint SOT23-5
pins: 1 VIN, 2 GND, 3 EN, 4 BYP, 5 VOUT

## TCA785Q
designator U?  (value not drawn)
footprint DIP-16
pins: 1 GND, 2 ~{Q2}, 3 QU, 4 ~{Q1}, 5 Vsync, 6 I, 7 Qz, 8 Vref, 9 R9, 10 C10, 11 V11, 12 C12, 13 L, 14 Q1, 15 Q2, 16 VS
text: TCA785

## TCS3200
designator *
pins: 1 VCC, 2 OUT, 3 S2, 4 S3, 5 S0, 6 S1, 7 OE, 8 GND

## Terminal Block
designator CONN?  (value not drawn)
footprint HB9500-2P
pins: 1, 2

## TFT 1.8 INCH
designator SCREEN?  (value not drawn)
footprint TFT 1.8 INCH
pins: 1 VCC, 2 GND, 3 CS, 4 RESET, 5 DC, 6 SDA, 7 SCK, 8 LED BL, 9 SD_SCK, 10 SD_MISO, 11 SD_MOSI, 12 SD_CS
text: TFT 1.8' 128X160

## Through Hole Buton
designator BUTTON?  (value not drawn)
footprint 12x12mm
pins: 1, 2

## TP4056
designator U?
footprint SOP-8
pins: 1, 2, 3, 4, 5, 6, 7, 8
text: VCCC; BAT; CE; TEMP; CHRG; STDBY; PROG; GND

## TPS6104
designator U?  (value not drawn)
Low-Power DC-DC Boost Converter
footprint SOT23-5
pins: 1 SW, 2 GND, 3 FB, 4 EN, 5 VIN

## TRANSFOMER
designator L?, comment EE40
footprint TRANSFOMER
pins: 1, 2, 3, 4, 5, 6, 7, 8, 9, 10

## TRANSFOMER-ISOLATE
designator T?, comment ISOLATE
footprint TRANFOMER_ISOLATE
pins: 1, 2, 3, 4, 5, 6, 7, 8

## TTP223
designator TOỤCH?  (value not drawn)
footprint TTP223 MODULE
pins: 1 GND, 2 IO, 3 VCC

## UC1601_12864
designator LED?  (value not drawn)
footprint UC1601_LCD
pins: 3, 4, 5, 6, 7, 8, 11, 16, 17, 18, 19, 20, 21, 22, 23, 29, A, K
text: UC1601 LCD128x64; CS; RST; DC; RW; VCC; CLOCK (D0); DATA (D3); GND

## ULN2803
designator U?  (value not drawn)
footprint DIP-18
pins: 1 I1, 2 I2, 3 I3, 4 I4, 5 I5, 6 I6, 7 I7, 8 I8, 9 GND, 10 COM, 11 Q8, 12 Q7, 13 Q6, 14 Q5, 15 Q4, 16 Q3, 17 Q2, 18 Q1

## USB-C3.1 12PIN
designator CONN?  (value not drawn)
footprint TYPE-C-31-M-12
pins: 1 B1|A2, 2 B4|A9, 3 B5, 4 A8, 5 B6, 6 A7, 7 A6, 8 B7, 9 A5, 10 B8, 11 A4|B9, 12 A1|B12, GND

## USBLC6
designator U?  (value not drawn)
USB ESD
footprint SOT23-6
pins: 1, 2, 3, 4, 5, 6

## VARISTOR
designator C?  (value not drawn)
footprint 14D271K
footprint 20D471K
pins: 1, 2

## WELD MARKS
designator WELD?  (value not drawn)
footprint PAD Select
pins: 1, 2

## WELD MARKS 2
designator WELD?  (value not drawn)
footprint PAD SELECT 2
pins: 1, 2, 3

## WX-DC2412_MODULE
designator M?  (value not drawn)
footprint WX-DC2412_MODULE
pins: 1 AC ~, 2 AC ~, 3 GND, 4 VCC

## XTAL
designator XT?
footprint M-49S
pins: 1 27, 2 26